# Altium footprint library Component_2.PcbLib: 15 footprints
Each footprint in its own frame and in the unit in brackets; x right, y up, seen from the top. Pads: shape width x height; smd on the part's side, far side on the other; paste and mask are expansions set on the pad; w line width, h text height; cw(c..) or ccw(c..) is an arc to the next point about the centre after c.
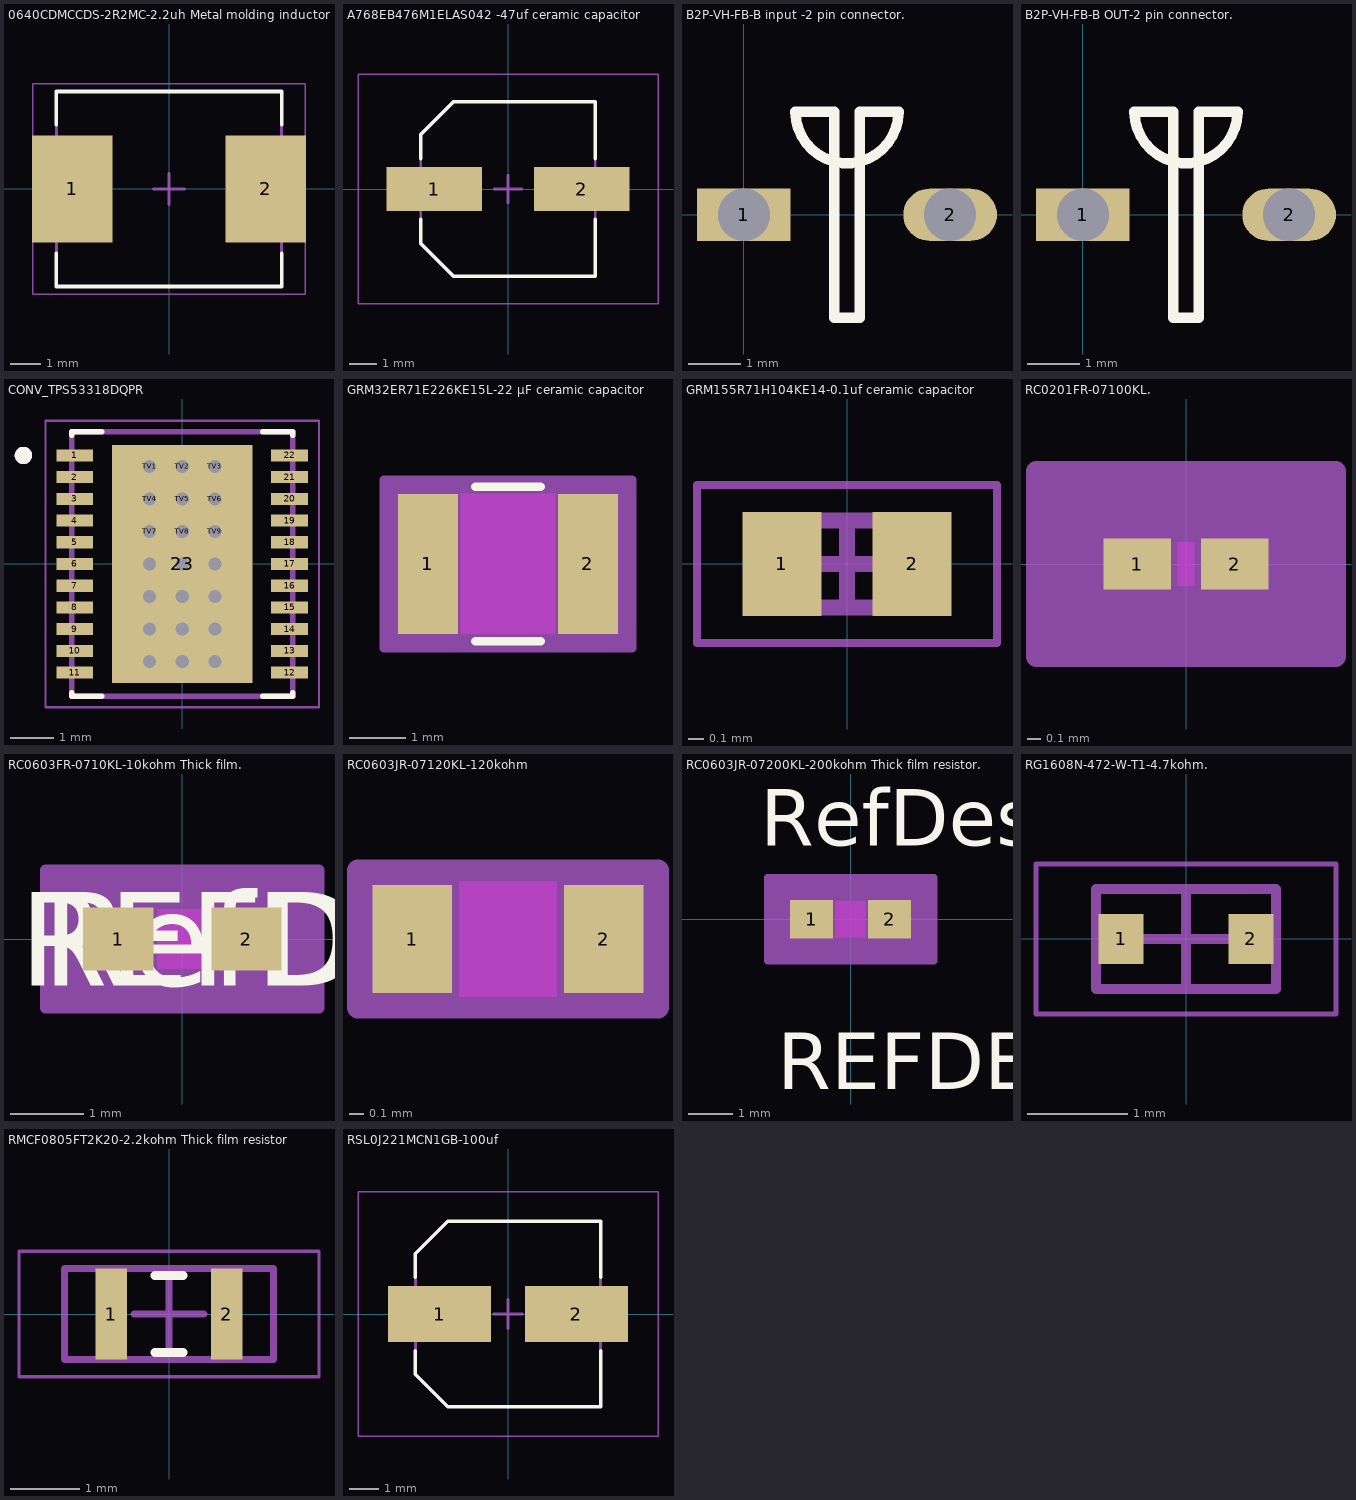
[diagram p0: the footprints below, top view; thin cyan lines are the x and y axes]

## 0640CDMCCDS-2R2MC-2.2uh Metal molding inductor [mm] "Molded Inductor, 2-Leads, Body 7.25x6.50mm, IPC Medium Density"
height 3.8
pads (2):
  rect 2.65x3.5 smd: 1(-3.175,0) 2(3.175,0)
Top Overlay:
  lines w0.127: -3.7,-2.114 -3.7,-3.2 3.7,-3.2 3.7,-2.114 ; -3.7,2.113 -3.7,3.2 3.7,3.2 3.7,2.113
Mechanical 13:
  lines w0.1: -3.7,-3.2 -3.7,3.2 3.7,3.2 3.7,-3.2 -3.7,-3.2
Mechanical 15:
  lines w0.05: -4.475,-3.45 -4.475,3.45 4.475,3.45 4.475,-3.45 -4.475,-3.45
  lines w0.1: -0.5,0 0.5,0 ; 0,-0.5 0,0.5
3D body: height 3.8, standoff 0, extent -3.7,-3.2 3.7,3.2

## A768EB476M1ELAS042 -47uf ceramic capacitor [mm]
height 5.7
pads (2):
  rect 3.5x1.6 smd: 1(-2.7,0) 2(2.7,0)
Top Overlay:
  lines w0.127: -3.2,-1.1 -3.2,-2 -2,-3.2 3.2,-3.2 3.2,-1.1 ; -3.2,1.1 -3.2,2 -2,3.2 3.2,3.2 3.2,1.1
Mechanical 13:
  lines w0.1: -3.2,-2 -3.2,2 -2,3.2 3.2,3.2 3.2,-3.2 -2,-3.2 -3.2,-2
Mechanical 15:
  lines w0.05: -5.5,-4.2 5.5,-4.2 5.5,4.2 -5.5,4.2 -5.5,-4.2
  lines w0.1: -0.5,0 0.5,0 ; 0,-0.5 0,0.5
3D body "A768EB476M1ELAS042 -47uf ceramic capacitor.step": height 5.7, standoff -0.85, extent -3.7,-3.275 3.7,3.275

## B2P-VH-FB-B input -2 pin connector. [mm]
pads (2):
  rect 1.8x1 hole 1: 1(0,0)
  oval 1.8x1 hole 1: 2(3.96,0)
Top Overlay:
  lines w0.2: 0.99,1.98 ccw(c1.98,1.98) 2.97,1.98 2.225,1.98 2.225,-1.98 1.735,-1.98 1.735,1.98 0.99,1.98

## B2P-VH-FB-B OUT-2 pin connector. [mm]
pads (2):
  rect 1.8x1 hole 1: 1(0,0)
  oval 1.8x1 hole 1: 2(3.96,0)
Top Overlay:
  lines w0.2: 0.99,1.98 ccw(c1.98,1.98) 2.97,1.98 2.225,1.98 2.225,-1.98 1.735,-1.98 1.735,1.98 0.99,1.98

## CONV_TPS53318DQPR [mm]
pads (44):
  rect 0.85x0.28 smd paste-1 mask+0: 1(-2.475,2.5) 2(-2.475,2) 3(-2.475,1.5) 4(-2.475,1) 5(-2.475,0.5) 6(-2.475,0) 7(-2.475,-0.5) 8(-2.475,-1) 9(-2.475,-1.5) 10(-2.475,-2) 11(-2.475,-2.5) 12(2.475,-2.5) 13(2.475,-2) 14(2.475,-1.5) 15(2.475,-1) 16(2.475,-0.5) 17(2.475,0) 18(2.475,0.5) 19(2.475,1) 20(2.475,1.5) 21(2.475,2) 22(2.475,2.5)
  rect 3.24x5.48 smd paste-4: 23(0,0)
  rect 0.4x0.4 hole 0.3: TV1(-0.75,2.25) TV2(0,2.25) TV3(0.75,2.25) TV4(-0.75,1.5) TV5(0,1.5) TV6(0.75,1.5) TV7(-0.75,0.75) TV8(0,0.75) TV9(0.75,0.75) TV10(-0.75,0) TV11(0,0) TV12(0.75,0) TV13(-0.75,-0.75) TV14(0,-0.75) TV15(0.75,-0.75) TV16(-0.75,-1.5) TV17(0,-1.5) TV18(0.75,-1.5) TV19(-0.75,-2.25) TV20(0,-2.25) TV21(0.75,-2.25)
Top Overlay:
  circle w0.2: c-3.66,2.5 r0.1
  lines w0.127: -2.55,-2.96 -2.55,-3.05 -1.85,-3.05 ; -2.55,2.96 -2.55,3.05 -1.85,3.05 ; 1.85,-3.05 2.55,-3.05 2.55,-2.96 ; 1.85,3.05 2.55,3.05 2.55,2.96
Top Paste:
  region: 1.45,-2.4 0.15,-2.4 0.15,-1 1.45,-1
  region: -0.15,-2.4 -1.45,-2.4 -1.45,-1 -0.15,-1
  region: 1.45,1 0.15,1 0.15,2.4 1.45,2.4
  region: -0.15,1 -1.45,1 -1.45,2.4 -0.15,2.4
  region: 1.45,-0.7 0.15,-0.7 0.15,0.7 1.45,0.7
  region: -0.15,-0.7 -1.45,-0.7 -1.45,0.7 -0.15,0.7
  region: 2.875,2.385 2.075,2.385 2.075,2.615 2.875,2.615
  region: 2.875,1.885 2.075,1.885 2.075,2.115 2.875,2.115
  region: 2.875,1.385 2.075,1.385 2.075,1.615 2.875,1.615
  region: 2.875,0.885 2.075,0.885 2.075,1.115 2.875,1.115
  region: 2.875,0.385 2.075,0.385 2.075,0.615 2.875,0.615
  region: 2.875,-0.115 2.075,-0.115 2.075,0.115 2.875,0.115
  region: 2.875,-0.615 2.075,-0.615 2.075,-0.385 2.875,-0.385
  region: 2.875,-1.115 2.075,-1.115 2.075,-0.885 2.875,-0.885
  region: 2.875,-1.615 2.075,-1.615 2.075,-1.385 2.875,-1.385
  region: 2.875,-2.115 2.075,-2.115 2.075,-1.885 2.875,-1.885
  region: 2.875,-2.615 2.075,-2.615 2.075,-2.385 2.875,-2.385
  region: -2.075,-2.615 -2.875,-2.615 -2.875,-2.385 -2.075,-2.385
  region: -2.075,-2.115 -2.875,-2.115 -2.875,-1.885 -2.075,-1.885
  region: -2.075,-1.615 -2.875,-1.615 -2.875,-1.385 -2.075,-1.385
  region: -2.075,-1.115 -2.875,-1.115 -2.875,-0.885 -2.075,-0.885
  region: -2.075,-0.615 -2.875,-0.615 -2.875,-0.385 -2.075,-0.385
  region: -2.075,-0.115 -2.875,-0.115 -2.875,0.115 -2.075,0.115
  region: -2.075,0.385 -2.875,0.385 -2.875,0.615 -2.075,0.615
  region: -2.075,0.885 -2.875,0.885 -2.875,1.115 -2.075,1.115
  region: -2.075,1.385 -2.875,1.385 -2.875,1.615 -2.075,1.615
  region: -2.075,1.885 -2.875,1.885 -2.875,2.115 -2.075,2.115
  region: -2.075,2.385 -2.875,2.385 -2.875,2.615 -2.075,2.615
Top Solder:
  region: 2.97,2.29 1.98,2.29 1.98,2.71 2.97,2.71
  region: 2.97,1.79 1.98,1.79 1.98,2.21 2.97,2.21
  region: 2.97,1.29 1.98,1.29 1.98,1.71 2.97,1.71
  region: 2.97,0.79 1.98,0.79 1.98,1.21 2.97,1.21
  region: 2.97,0.29 1.98,0.29 1.98,0.71 2.97,0.71
  region: 2.97,-0.21 1.98,-0.21 1.98,0.21 2.97,0.21
  region: 2.97,-0.71 1.98,-0.71 1.98,-0.29 2.97,-0.29
  region: 2.97,-1.21 1.98,-1.21 1.98,-0.79 2.97,-0.79
  region: 2.97,-1.71 1.98,-1.71 1.98,-1.29 2.97,-1.29
  region: 2.97,-2.21 1.98,-2.21 1.98,-1.79 2.97,-1.79
  region: 2.97,-2.71 1.98,-2.71 1.98,-2.29 2.97,-2.29
  region: -1.98,-2.71 -2.97,-2.71 -2.97,-2.29 -1.98,-2.29
  region: -1.98,-2.21 -2.97,-2.21 -2.97,-1.79 -1.98,-1.79
  region: -1.98,-1.71 -2.97,-1.71 -2.97,-1.29 -1.98,-1.29
  region: -1.98,-1.21 -2.97,-1.21 -2.97,-0.79 -1.98,-0.79
  region: -1.98,-0.71 -2.97,-0.71 -2.97,-0.29 -1.98,-0.29
  region: -1.98,-0.21 -2.97,-0.21 -2.97,0.21 -1.98,0.21
  region: -1.98,0.29 -2.97,0.29 -2.97,0.71 -1.98,0.71
  region: -1.98,0.79 -2.97,0.79 -2.97,1.21 -1.98,1.21
  region: -1.98,1.29 -2.97,1.29 -2.97,1.71 -1.98,1.71
  region: -1.98,1.79 -2.97,1.79 -2.97,2.21 -1.98,2.21
  region: -1.98,2.29 -2.97,2.29 -2.97,2.71 -1.98,2.71
Mechanical 13:
  circle w0.2: c-3.66,2.5 r0.1
  lines w0.127: -2.55,-3.05 2.55,-3.05 2.55,3.05 -2.55,3.05 -2.55,-3.05
Mechanical 15:
  lines w0.05: -3.15,-3.3 -3.15,3.3 3.15,3.3 3.15,-3.3 -3.15,-3.3
3D body "TPS53319DQPR.STEP": height 1.45, standoff -0.05, extent -2.565,-3.003 2.435,2.997

## GRM32ER71E226KE15L-22 µF ceramic capacitor [mil]
pads (2):
  rect 42x98 smd paste+0 mask+0: 1(689,-4150) 2(801,-4150)
Top Layer keep-out:
  region: 712,-4197 712,-4103 778,-4103 778,-4197
Top Overlay:
  lines w6: 722.11,-4204 767.89,-4204 ; 722.11,-4096 767.89,-4096
Keep-Out Layer:
  region: 712,-4199 712,-4101 778,-4101 778,-4199
Mechanical 13:
  lines w1: 682,-4199 682,-4101 ; 682,-4199 710,-4199 710,-4101 682,-4101 ; 682,-4199 808,-4199 ; 682,-4199 682,-4101 ; 682,-4101 808,-4101 ; 808,-4199 780,-4199 780,-4101 808,-4101 ; 808,-4199 808,-4101 ; 808,-4199 808,-4101
Mechanical 15:
  region: 832,-4209 658,-4209 658,-4091 832,-4091
  lines w6: 658,-4209 658,-4091 832,-4091 832,-4209 658,-4209
3D body "G-32_MUR.step": height 110, standoff 0, extent 682.01,-4199.02 807.99,-4100.98

## GRM155R71H104KE14-0.1uf ceramic capacitor [mm]
height 0.55
pads (2):
  rect 0.5x0.66 smd: 1(-0.413,0) 2(0.412,0)
Mechanical 13:
  lines w0.1: -0.525,-0.275 -0.525,0.275 0.525,0.275 0.525,-0.275 -0.525,-0.275
Mechanical 15:
  lines w0.05: -0.95,-0.5 -0.95,0.5 0.95,0.5 0.95,-0.5 -0.95,-0.5
  lines w0.1: -0.275,0 0.275,0 ; 0,-0.275 0,0.275
3D body "GRM155R71H104KE14-0.1uf ceramic capacitor.step": height 0.55, standoff 0, extent -0.525,-0.275 0.525,0.275

## RC0201FR-07100KL. [mil] "100 kOhms ±1% 0.05W, 1/20W Chip Resistor 0201 (0603 Metric) Moisture Resistant Thick Film"
pads (2):
  rect 20x15 smd paste+0 mask+0: 1(-14.5,0) 2(14.5,0)
Top Layer keep-out:
  region: -2.5,-4.5 -2.5,4.5 2.5,4.5 2.5,-4.5
Top Overlay:
  text ".Designator" at -135,65 h50
Keep-Out Layer:
  region: -2.5,-6.5 -2.5,6.5 2.5,6.5 2.5,-6.5
Mechanical 13:
  lines w1: -12.5,-6.5 -12.5,6.5 ; -12.5,-6.5 -4.5,-6.5 -4.5,6.5 -12.5,6.5 ; -12.5,-6.5 12.5,-6.5 ; -12.5,-6.5 -12.5,6.5 ; -12.5,6.5 12.5,6.5 ; 12.5,-6.5 4.5,-6.5 4.5,6.5 12.5,6.5 ; 12.5,-6.5 12.5,6.5 ; 12.5,-6.5 12.5,6.5
  text ".Designator" at -135,130 h50
Mechanical 15:
  region: 44.5,-27.5 -44.5,-27.5 -44.5,27.5 44.5,27.5
  lines w6: -44.5,-27.5 -44.5,27.5 44.5,27.5 44.5,-27.5 -44.5,-27.5
3D body "YAG_R0201_YAG.step": height 10, standoff 0, extent -12.52,-6.5 12.52,6.5

## RC0603FR-0710KL-10kohm Thick film. [mm] "10 kOhms ±1% 0.1W, 1/10W Chip Resistor 0603 (1608 Metric) Moisture Resistant Thick Film"
pads (2):
  rect 0.956x0.863 smd paste+0 mask+0: 1(-0.872,0) 2(0.872,0)
Top Layer keep-out:
  region: -0.343,-0.356 -0.343,0.356 0.343,0.356 0.343,-0.356
Top Overlay:
  text "RefDes" at -1.905,-0.635 h1.27
  text "REFDES" at -2.222,-0.635 h1.27
Keep-Out Layer:
  region: -0.343,-0.406 -0.343,0.406 0.343,0.406 0.343,-0.406
Mechanical 13:
  lines w0.025: -0.8,-0.406 -0.8,0.406 ; -0.8,-0.406 -0.394,-0.406 -0.394,0.406 -0.8,0.406 ; -0.8,-0.406 0.8,-0.406 ; -0.8,-0.406 -0.8,0.406 ; -0.8,0.406 0.8,0.406 ; 0.8,-0.406 0.394,-0.406 0.394,0.406 0.8,0.406 ; 0.8,-0.406 0.8,0.406 ; 0.8,-0.406 0.8,0.406
  text "RefDes2" at -2.222,-0.635 h1.27
Mechanical 15:
  region: 1.858,-0.939 -1.858,-0.939 -1.858,0.939 1.858,0.939
  lines w0.152: -1.858,-0.939 -1.858,0.939 1.858,0.939 1.858,-0.939 -1.858,-0.939
3D body "RC0603N_YAG.step": height 0.71, standoff 0, extent -0.8,-0.406 0.8,0.406

## RC0603FR-07200KL-200kohm Thick film resistor [mm]

## RC0603JR-07120KL-120kohm [mil] "120 kOhms ±5% 0.1W, 1/10W Chip Resistor 0603 (1608 Metric) Moisture Resistant Thick Film"
pads (2):
  rect 22x30 smd paste+0 mask+0: 1(-9161.5,-90) 2(-9108.5,-90)
Top Layer keep-out:
  region: -9148.5,-104 -9148.5,-76 -9121.5,-76 -9121.5,-104
Keep-Out Layer:
  region: -9148.5,-106 -9148.5,-74 -9121.5,-74 -9121.5,-106
Mechanical 13:
  lines w1: -9166.5,-106 -9166.5,-74 ; -9166.5,-106 -9150.5,-106 -9150.5,-74 -9166.5,-74 ; -9166.5,-106 -9103.5,-106 ; -9166.5,-106 -9166.5,-74 ; -9166.5,-74 -9103.5,-74 ; -9103.5,-106 -9119.5,-106 -9119.5,-74 -9103.5,-74 ; -9103.5,-106 -9103.5,-74 ; -9103.5,-106 -9103.5,-74
Mechanical 15:
  region: -9093.5,-109 -9176.5,-109 -9176.5,-71 -9093.5,-71
  lines w6: -9176.5,-109 -9176.5,-71 -9093.5,-71 -9093.5,-109 -9176.5,-109
3D body "RC0603N_YAG.step": height 27.99, standoff 0, extent -9166.5,-105.98 -9103.5,-74.02

## RC0603JR-07200KL-200kohm Thick film resistor. [mil]
pads (2):
  rect 38x34 smd paste+0 mask+0: 1(-34.5,0) 2(34.5,0)
Top Layer keep-out:
  region: -13.5,-14 -13.5,14 13.5,14 13.5,-14
Top Overlay:
  text "REFDES" at -65,-150 h50
  text "RefDes" at -80,65 h50
Keep-Out Layer:
  region: -13.5,-16 -13.5,16 13.5,16 13.5,-16
Mechanical 13:
  lines w1: -31.5,-16 -31.5,16 ; -31.5,-16 31.5,-16 ; -31.5,-16 -15.5,-16 -15.5,16 -31.5,16 ; -31.5,-16 -31.5,16 ; -31.5,16 31.5,16 ; 31.5,-16 31.5,16 ; 31.5,-16 31.5,16 ; 31.5,-16 15.5,-16 15.5,16 31.5,16
  text "RefDes2" at -90,125 h50
Mechanical 15:
  region: 73.5,-37 -73.5,-37 -73.5,37 73.5,37
  lines w6: -73.5,-37 73.5,-37 73.5,37 -73.5,37 -73.5,-37
3D body "RC0603N_YAG.step": height 27.99, standoff 0, extent -31.5,-15.98 31.5,15.98

## RG1608N-472-W-T1-4.7kohm. [mm] "Chip Resistor, 2-Leads, Body 1.70x0.90mm, IPC Medium Density"
height 0.4
pads (2):
  rect 0.45x0.5 smd: 1(-0.65,0) 2(0.65,0)
Mechanical 13:
  lines w0.1: -0.9,-0.5 0.9,-0.5 0.9,0.5 -0.9,0.5 -0.9,-0.5
Mechanical 15:
  lines w0.05: -1.5,-0.75 1.5,-0.75 1.5,0.75 -1.5,0.75 -1.5,-0.75
  lines w0.1: -0.5,0 0.5,0 ; 0,-0.5 0,0.5
3D body "RG1608N-472-W-T1-4.7kohm..step": height 0.4, standoff 0, extent -0.9,-0.5 0.9,0.5

## RMCF0805FT2K20-2.2kohm Thick film resistor [mm]
height 0.55
pads (2):
  rect 0.45x1.3 smd: 1(-0.825,0) 2(0.825,0)
Top Overlay:
  lines w0.127: -0.2,-0.55 0.2,-0.55 ; -0.2,0.55 0.2,0.55
Mechanical 13:
  lines w0.1: -1.5,-0.65 1.5,-0.65 1.5,0.65 -1.5,0.65 -1.5,-0.65
Mechanical 15:
  lines w0.05: -2.15,-0.9 2.15,-0.9 2.15,0.9 -2.15,0.9 -2.15,-0.9
  lines w0.1: -0.5,0 0.5,0 ; 0,-0.5 0,0.5
3D body: height 0.55, standoff 0, extent 1.05,-0.65 1.5,0.65
3D body: height 0.55, standoff 0, extent -1.5,-0.65 -1.05,0.65
3D body: height 0.55, standoff 0, extent -1.05,-0.65 1.05,0.65

## RSL0J221MCN1GB-100uf [mm] "Aluminum Electrolytic Capacitor, Body 6.40x6.40x6.30mm, IPC Low Density"
height 6.3
pads (2):
  rect 3.5x1.9 smd: 1(-2.325,0) 2(2.325,0)
Top Overlay:
  lines w0.127: -3.15,-1.25 -3.15,-2.05 -2.05,-3.15 3.15,-3.15 3.15,-1.25 ; -3.15,1.25 -3.15,2.05 -2.05,3.15 3.15,3.15 3.15,1.25
Mechanical 13:
  lines w0.1: -3.15,-2.05 -3.15,2.05 -2.05,3.15 3.15,3.15 3.15,-3.15 -2.05,-3.15 -3.15,-2.05
Mechanical 15:
  lines w0.05: -5.1,-4.15 5.1,-4.15 5.1,4.15 -5.1,4.15 -5.1,-4.15
  lines w0.1: -0.5,0 0.5,0 ; 0,-0.5 0,0.5
3D body "RSL0J221MCN1GB-100uf.step": height 6.3, standoff 0, extent -3.2,-3.15 3.2,3.15